# Altium footprint library LAB_B3_209_V1.PcbLib: 17 footprints (part 1 of 2)
Each footprint in its own frame and in the unit in brackets; x right, y up, seen from the top. Pads: shape width x height; smd on the part's side, far side on the other; paste and mask are expansions set on the pad; w line width, h text height; cw(c..) or ccw(c..) is an arc to the next point about the centre after c.
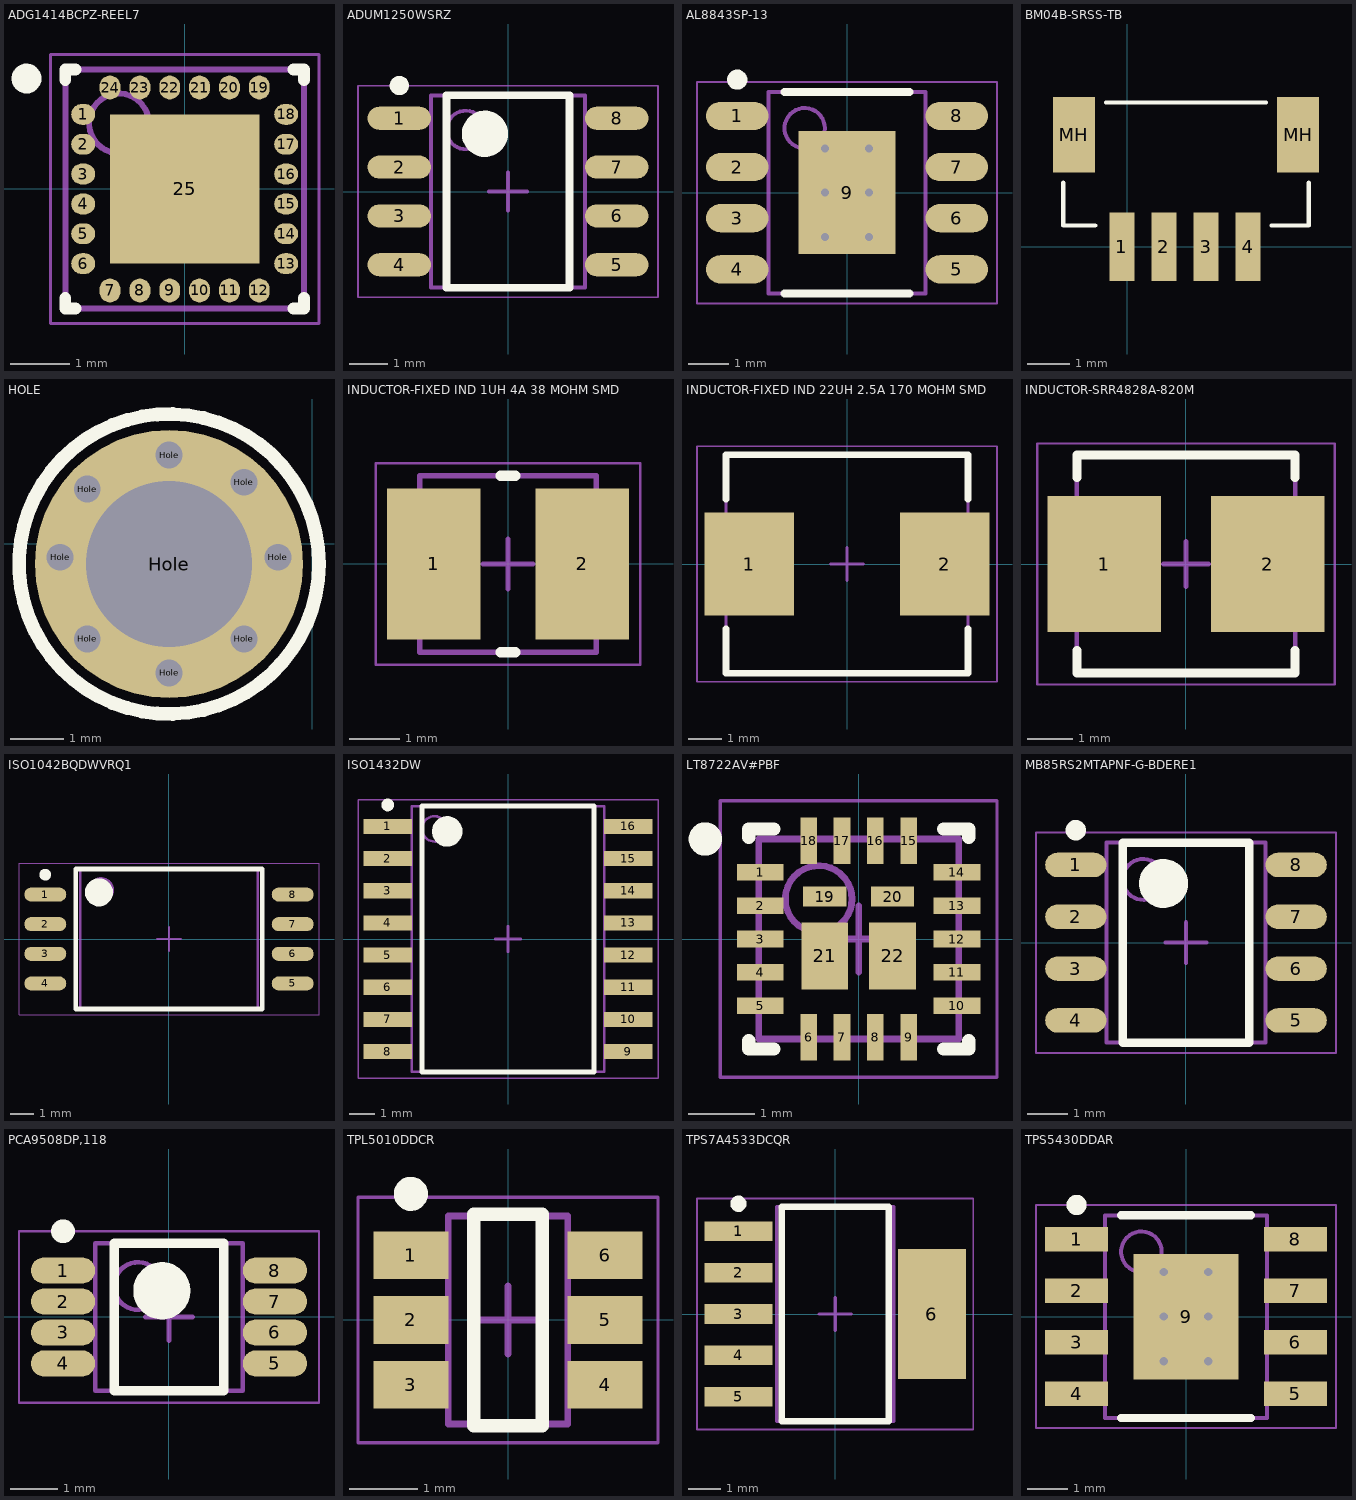
[diagram p0: the footprints below, top view; thin cyan lines are the x and y axes]

## ADG1414BCPZ-REEL7 [mm] "PQFN, 24-Leads, Body 4.00x4.00mm, Pitch 0.50mm, Thermal Pad 2.50x2.50mm, IPC Medium Density"
height 0.75
pads (25):
  oval 0.4x0.35 smd: 1(-1.7,1.25) 2(-1.7,0.75) 3(-1.7,0.25) 4(-1.7,-0.25) 5(-1.7,-0.75) 6(-1.7,-1.25) 13(1.7,-1.25) 14(1.7,-0.75) 15(1.7,-0.25) 16(1.7,0.25) 17(1.7,0.75) 18(1.7,1.25)
  oval 0.35x0.4 smd: 7(-1.25,-1.7) 8(-0.75,-1.7) 9(-0.25,-1.7) 10(0.25,-1.7) 11(0.75,-1.7) 12(1.25,-1.7) 19(1.25,1.7) 20(0.75,1.7) 21(0.25,1.7) 22(-0.25,1.7) 23(-0.75,1.7) 24(-1.25,1.7)
  rect 2.5x2.5 smd: 25(0,0)
Top Overlay:
  circle w0.25: c-2.65,1.85 r0.125
  lines w0.2: -2,-1.825 -2,-2 -1.825,-2 ; -2,1.825 -2,2 -1.825,2 ; 1.825,-2 2,-2 2,-1.825 ; 1.825,2 2,2 2,1.825
Mechanical 13:
  circle w0.1: c-1.1,1.1 r0.5
  lines w0.1: -2,-2 -2,2 2,2 2,-2 -2,-2
Mechanical 15:
  lines w0.05: -2.25,-2.25 -2.25,2.25 2.25,2.25 2.25,-2.25 -2.25,-2.25
  lines w0.1: -0.5,0 0.5,0 ; 0,-0.5 0,0.5
3D body "ADG1414BCPZ-REEL7  .step": height 0.75, standoff 0, extent -2,-2 2,2

## ADUM1250WSRZ [mm]
height 1.75
pads (8):
  oval 1.65x0.6 smd: 1(-2.825,1.905) 2(-2.825,0.635) 3(-2.825,-0.635) 4(-2.825,-1.905) 5(2.825,-1.905) 6(2.825,-0.635) 7(2.825,0.635) 8(2.825,1.905)
Top Overlay:
  circle w0.6: c-0.6,1.5 r0.3
  circle w0.25: c-2.825,2.755 r0.125
  lines w0.2: -1.6,-2.5 1.6,-2.5 1.6,2.5 -1.6,2.5 -1.6,-2.5
Mechanical 13:
  circle w0.1: c-1.1,1.6 r0.5
  lines w0.1: -2,-2.5 2,-2.5 2,2.5 -2,2.5 -2,-2.5
Mechanical 15:
  lines w0.05: -3.9,-2.75 3.9,-2.75 3.9,2.75 -3.9,2.75 -3.9,-2.75
  lines w0.1: -0.5,0 0.5,0 ; 0,-0.5 0,0.5
3D body "ADUM1250WSRZ  .step": height 1.75, standoff 0, extent -3,-2.5 3,2.5

## AL8843SP-13 [mm]
height 1.63
pads (9):
  oval 1.55x0.7 smd: 1(-2.725,1.905) 2(-2.725,0.635) 3(-2.725,-0.635) 4(-2.725,-1.905) 5(2.725,-1.905) 6(2.725,-0.635) 7(2.725,0.635) 8(2.725,1.905)
  rect 2.41x3.05 smd: 9(0,0)
via -0.55,1.1 diameter 0.5 hole 0.2
via 0.55,1.1 diameter 0.5 hole 0.2
via -0.55,0 diameter 0.5 hole 0.2
via 0.55,0 diameter 0.5 hole 0.2
via -0.55,-1.1 diameter 0.5 hole 0.2
via 0.55,-1.1 diameter 0.5 hole 0.2
Top Overlay:
  circle w0.25: c-2.725,2.805 r0.125
  lines w0.2: -1.55,-2.5 1.55,-2.5 ; -1.55,2.5 1.55,2.5
Mechanical 13:
  circle w0.1: c-1.05,1.6 r0.5
  lines w0.1: -1.95,-2.5 -1.95,2.5 1.95,2.5 1.95,-2.5 -1.95,-2.5
Mechanical 15:
  lines w0.05: -3.725,-2.75 -3.725,2.75 3.725,2.75 3.725,-2.75 -3.725,-2.75
  lines w0.1: -0.5,0 0.5,0 ; 0,-0.5 0,0.5
3D body "AL8843SP-13  .step": height 1.63, standoff 0, extent -3.05,-2.5 3.05,2.5

## BM04B-SRSS-TB [mm]
pads (6):
  rect 0.6x1.64 smd: 1(-0.127,0) 2(0.873,0) 3(1.873,0) 4(2.873,0)
  rect 1x1.8 smd: MH(-1.27,2.667) MH(4.064,2.667)
Top Overlay:
  lines w0.1: -1.524,1.524 -1.524,0.508 -0.762,0.508 ; -0.508,3.429 3.302,3.429 ; 3.429,0.508 4.318,0.508 4.318,1.524
3D body: height 6.3, standoff 0, extent -1.524,0.508 4.318,3.429

## HOLE [mm]
pads (9):
  round 0.5 hole 0.5: Hole(-4.699,-0.254) Hole(-4.191,-1.778) Hole(-4.191,1.016) Hole(-2.667,-2.413) Hole(-2.667,1.651) Hole(-1.27,-1.778) Hole(-1.27,1.143) Hole(-0.635,-0.254)
  round 5 hole 3.1: Hole(-2.667,-0.381)
Top Overlay:
  circle w0.254: c-2.667,-0.381 r2.797

## INDUCTOR-FIXED IND 1UH 4A 38 MOHM SMD [mm]
height 2
pads (2):
  rect 1.85x3 smd: 1(-1.475,0) 2(1.475,0)
Top Overlay:
  lines w0.2: -0.15,-1.75 0.15,-1.75 ; -0.15,1.75 0.15,1.75
Mechanical 13:
  lines w0.1: -1.75,-1.75 1.75,-1.75 1.75,1.75 -1.75,1.75 -1.75,-1.75
Mechanical 15:
  lines w0.05: -2.625,-2 2.625,-2 2.625,2 -2.625,2 -2.625,-2
  lines w0.1: -0.5,0 0.5,0 ; 0,-0.5 0,0.5
3D body "INDUCTOR-FIXED IND 1UH 4A 38 MOHM SMD  .step": height 2.1, standoff 0, extent -1.85,-1.75 1.85,1.75

## INDUCTOR-FIXED IND 22UH 2.5A 170 MOHM SMD [mm]
height 4.8
pads (2):
  rect 2.7x3.1 smd: 1(-2.95,0) 2(2.95,0)
Top Overlay:
  lines w0.2: -3.65,-1.95 -3.65,-3.3 3.65,-3.3 3.65,-1.95 ; -3.65,1.95 -3.65,3.3 3.65,3.3 3.65,1.95
Mechanical 13:
  lines w0.1: -3.65,-3.3 3.65,-3.3 3.65,3.3 -3.65,3.3 -3.65,-3.3
Mechanical 15:
  lines w0.05: -4.525,-3.55 4.525,-3.55 4.525,3.55 -4.525,3.55 -4.525,-3.55
  lines w0.1: -0.5,0 0.5,0 ; 0,-0.5 0,0.5
3D body "INDUCTOR-FIXED IND 22UH 2.5A 170 MOHM SMD  .step": height 4.9, standoff 0, extent -3.75,-3.3 3.75,3.3

## INDUCTOR-SRR4828A-820M [mm] "Precision Wire Wound Inductor, 2-Leads, Body 4.80x4.80mm, IPC Medium Density"
height 2.8
pads (2):
  rect 2.5x3 smd: 1(-1.8,0) 2(1.8,0)
Top Overlay:
  lines w0.2: -2.4,-1.9 -2.4,-2.4 2.4,-2.4 2.4,-1.9 ; -2.4,1.9 -2.4,2.4 2.4,2.4 2.4,1.9
Mechanical 13:
  lines w0.1: -2.4,-2.4 -2.4,2.4 2.4,2.4 2.4,-2.4 -2.4,-2.4
Mechanical 15:
  lines w0.05: -3.275,-2.65 -3.275,2.65 3.275,2.65 3.275,-2.65 -3.275,-2.65
  lines w0.1: -0.5,0 0.5,0 ; 0,-0.5 0,0.5
3D body "INDUCTOR-SRR4828A-820M  .step": height 2.9, standoff 0, extent -2.5,-2.4 2.5,2.4

## ISO1042BQDWVRQ1 [mm]
height 2.8
pads (8):
  oval 1.8x0.6 smd: 1(-5.3,1.905) 2(-5.3,0.635) 3(-5.3,-0.635) 4(-5.3,-1.905) 5(5.3,-1.905) 6(5.3,-0.635) 7(5.3,0.635) 8(5.3,1.905)
Top Overlay:
  circle w0.6: c-3,2 r0.3
  circle w0.25: c-5.3,2.755 r0.125
  lines w0.2: -4,-3 4,-3 4,3 -4,3 -4,-3
Mechanical 13:
  circle w0.1: c-2.9,2.1 r0.5
  lines w0.1: -3.8,-3 3.8,-3 3.8,3 -3.8,3 -3.8,-3
Mechanical 15:
  lines w0.05: -6.425,-3.25 6.425,-3.25 6.425,3.25 -6.425,3.25 -6.425,-3.25
  lines w0.1: -0.5,0 0.5,0 ; 0,-0.5 0,0.5
3D body "ISO1042BQDWVRQ1  .step": height 2.8, standoff 0, extent -5.75,-3 5.75,3

## ISO1432DW [mm]
height 2.65
pads (16):
  rect 1.9x0.6 smd: 1(-4.75,4.445) 2(-4.75,3.175) 3(-4.75,1.905) 4(-4.75,0.635) 5(-4.75,-0.635) 6(-4.75,-1.905) 7(-4.75,-3.175) 8(-4.75,-4.445) 9(4.75,-4.445) 10(4.75,-3.175) 11(4.75,-1.905) 12(4.75,-0.635) 13(4.75,0.635) 14(4.75,1.905) 15(4.75,3.175) 16(4.75,4.445)
Top Overlay:
  circle w0.25: c-4.75,5.295 r0.125
  circle w0.6: c-2.4,4.25 r0.3
  lines w0.2: -3.4,-5.25 -3.4,5.25 3.4,5.25 3.4,-5.25 -3.4,-5.25
Mechanical 13:
  circle w0.1: c-2.9,4.35 r0.5
  lines w0.1: -3.8,-5.25 -3.8,5.25 3.8,5.25 3.8,-5.25 -3.8,-5.25
Mechanical 15:
  lines w0.05: -5.925,-5.5 -5.925,5.5 5.925,5.5 5.925,-5.5 -5.925,-5.5
  lines w0.1: -0.5,0 0.5,0 ; 0,-0.5 0,0.5
3D body "ISO1432DW  .step": height 2.65, standoff 0, extent -5.15,-5.25 5.15,5.25

## LT8722AV#PBF [mm] "QFN, 18-Leads, Body 3.00x3.00mm, Pitch 0.50mm, Thermal Pad 1.90x1.90mm, IPC Medium Density"
height 0.95
pads (22):
  rect 0.7x0.25 smd: 1(-1.475,1) 2(-1.475,0.5) 3(-1.475,0) 4(-1.475,-0.5) 5(-1.475,-1) 10(1.475,-1) 11(1.475,-0.5) 12(1.475,0) 13(1.475,0.5) 14(1.475,1)
  rect 0.25x0.7 smd: 6(-0.75,-1.475) 7(-0.25,-1.475) 8(0.25,-1.475) 9(0.75,-1.475) 15(0.75,1.475) 16(0.25,1.475) 17(-0.25,1.475) 18(-0.75,1.475)
  rect 0.65x0.3 smd: 19(-0.508,0.635) 20(0.508,0.635)
  rect 0.7x1 smd: 21(-0.508,-0.254) 22(0.508,-0.254)
Top Overlay:
  circle w0.25: c-2.3,1.5 r0.125
  lines w0.2: -1.65,-1.525 -1.65,-1.65 -1.275,-1.65 ; -1.65,1.525 -1.65,1.65 -1.275,1.65 ; 1.275,-1.65 1.65,-1.65 1.65,-1.525 ; 1.275,1.65 1.65,1.65 1.65,1.525
Mechanical 13:
  circle w0.1: c-0.6,0.6 r0.5
  lines w0.1: -1.5,-1.5 -1.5,1.5 1.5,1.5 1.5,-1.5 -1.5,-1.5
Mechanical 15:
  lines w0.05: -2.075,-2.075 -2.075,2.075 2.075,2.075 2.075,-2.075 -2.075,-2.075
  lines w0.1: -0.5,0 0.5,0 ; 0,-0.5 0,0.5
3D body "LT8722AV#PBF  .step": height 0.95, standoff 0, extent -1.52,-1.52 1.52,1.52

## MB85RS2MTAPNF-G-BDERE1 [mm] "SOP, 8-Leads, Body 4.90x3.90mm, Pitch 1.27mm, IPC Medium Density"
height 1.73
pads (8):
  oval 1.5x0.6 smd: 1(-2.7,1.905) 2(-2.7,0.635) 3(-2.7,-0.635) 4(-2.7,-1.905) 5(2.7,-1.905) 6(2.7,-0.635) 7(2.7,0.635) 8(2.7,1.905)
Top Overlay:
  circle w0.25: c-2.7,2.755 r0.125
  circle w0.6: c-0.55,1.45 r0.3
  lines w0.2: -1.55,-2.45 -1.55,2.45 1.55,2.45 1.55,-2.45 -1.55,-2.45
Mechanical 13:
  circle w0.1: c-1.05,1.55 r0.5
  lines w0.1: -1.95,-2.45 -1.95,2.45 1.95,2.45 1.95,-2.45 -1.95,-2.45
Mechanical 15:
  lines w0.05: -3.675,-2.7 -3.675,2.7 3.675,2.7 3.675,-2.7 -3.675,-2.7
  lines w0.1: -0.5,0 0.5,0 ; 0,-0.5 0,0.5
3D body "MB85RS2MTAPNF-G-BDERE1  .step": height 1.73, standoff 0, extent -3,-2.45 3,2.45

## PCA9508DP,118 [mm]
height 1.1
pads (8):
  oval 1.35x0.55 smd: 1(-2.225,0.975) 2(-2.225,0.325) 3(-2.225,-0.325) 4(-2.225,-0.975) 5(2.225,-0.975) 6(2.225,-0.325) 7(2.225,0.325) 8(2.225,0.975)
Top Overlay:
  circle w0.25: c-2.225,1.8 r0.125
  circle w0.6: c-0.15,0.55 r0.3
  lines w0.2: -1.15,-1.55 -1.15,1.55 1.15,1.55 1.15,-1.55 -1.15,-1.55
Mechanical 13:
  circle w0.1: c-0.65,0.65 r0.5
  lines w0.1: -1.55,-1.55 -1.55,1.55 1.55,1.55 1.55,-1.55 -1.55,-1.55
Mechanical 15:
  lines w0.05: -3.15,-1.8 -3.15,1.8 3.15,1.8 3.15,-1.8 -3.15,-1.8
  lines w0.1: -0.5,0 0.5,0 ; 0,-0.5 0,0.5
3D body "PCA9508DP,118  .step": height 1.1, standoff 0, extent -2.45,-1.55 2.45,1.55

## TPL5010DDCR [mm] "SOT23, 6-Leads, Body 3.05x3.05mm, Pitch 0.95mm, IPC Medium Density"
height 1.1
pads (6):
  rect 1.1x0.7 smd: 1(-1.425,0.95) 2(-1.425,0) 3(-1.425,-0.95) 4(1.425,-0.95) 5(1.425,0) 6(1.425,0.95)
Top Overlay:
  circle w0.25: c-1.425,1.85 r0.125
  lines w0.2: -0.5,-1.55 0.5,-1.55 0.5,1.55 -0.5,1.55 -0.5,-1.55
Mechanical 13:
  lines w0.1: -0.875,-1.525 -0.875,1.525 0.875,1.525 0.875,-1.525 -0.875,-1.525
Mechanical 15:
  lines w0.05: -2.2,-1.8 -2.2,1.8 2.2,1.8 2.2,-1.8 -2.2,-1.8
  lines w0.1: -0.5,0 0.5,0 ; 0,-0.5 0,0.5
3D body "SOT95P305X110-6N.step": height 1.1, standoff 0.01, extent -1.518,-1.525 1.518,1.525

## TPS7A4533DCQR [mm] "SOT223, 6-Leads, Body 6.50x7.06mm (avg), Pitch 1.27mm, IPC Medium Density"
height 1.8
pads (6):
  rect 2.1x0.6 smd: 1(-2.975,2.54) 2(-2.975,1.27) 3(-2.975,0) 4(-2.975,-1.27) 5(-2.975,-2.54)
  rect 2.1x4 smd: 6(2.975,0)
Top Overlay:
  circle w0.25: c-2.975,3.39 r0.125
  lines w0.2: -1.65,-3.3 1.65,-3.3 1.65,3.3 -1.65,3.3 -1.65,-3.3
Mechanical 13:
  lines w0.1: -1.8,-3.3 1.8,-3.3 1.8,3.3 -1.8,3.3 -1.8,-3.3
Mechanical 15:
  lines w0.05: -4.25,-3.55 4.25,-3.55 4.25,3.55 -4.25,3.55 -4.25,-3.55
  lines w0.1: -0.5,0 0.5,0 ; 0,-0.5 0,0.5
3D body "TPS7A4533DCQR  .step": height 1.8, standoff 0, extent -3.53,-3.3 3.53,3.3

## TPS5430DDAR [mm]
height 1.7
pads (9):
  rect 1.55x0.6 smd: 1(-2.7,1.905) 2(-2.7,0.635) 3(-2.7,-0.635) 4(-2.7,-1.905) 5(2.7,-1.905) 6(2.7,-0.635) 7(2.7,0.635) 8(2.7,1.905)
  rect 2.6x3.1 smd: 9(0,0)
via 0.55,-1.1 diameter 0.5 hole 0.2
via -0.55,-1.1 diameter 0.5 hole 0.2
via 0.55,0 diameter 0.5 hole 0.2
via -0.55,0 diameter 0.5 hole 0.2
via 0.55,1.1 diameter 0.5 hole 0.2
via -0.55,1.1 diameter 0.5 hole 0.2
Top Overlay:
  circle w0.25: c-2.7,2.755 r0.125
  lines w0.2: -1.6,-2.5 1.6,-2.5 ; -1.6,2.5 1.6,2.5
Mechanical 13:
  circle w0.1: c-1.1,1.6 r0.5
  lines w0.1: -2,-2.5 2,-2.5 2,2.5 -2,2.5 -2,-2.5
Mechanical 15:
  lines w0.05: -3.7,-2.75 3.7,-2.75 3.7,2.75 -3.7,2.75 -3.7,-2.75
  lines w0.1: -0.5,0 0.5,0 ; 0,-0.5 0,0.5
3D body "TPS5430DDAR  .step": height 1.7, standoff 0, extent -3,-2.5 3,2.5